# EAGLE library part H3LIS331DL (library CPSS_SENSOR)
ST Microelectronics High-g 3-axis accelerometer Features - Wide supply voltage, 2.16 V to 3.6 V - Low-voltage compatible IOs, 1.8 V - Ultra-low power consumption down to 10 μA in low-power mode - ±100g/±200g/±400g dynamically selectable full scales - I2C/SPI digital output interface - 16-bit data output - Sleep-to-wakeup function - 10000 g high-shock survivability - ECOPACK®, RoHS and “Green” compliant
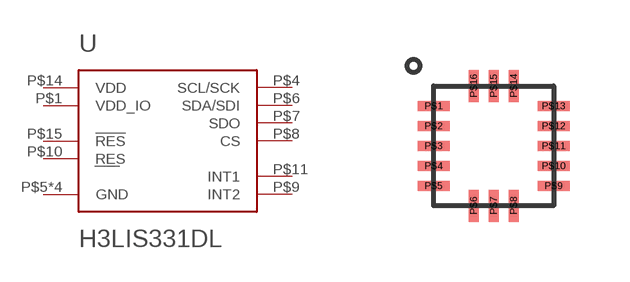
[diagram p5: symbol with the pads of TFLGA-16L; footprint TFLGA-16L]

Designator prefix U

## H3LIS331DL  [TFLGA-16L]
P$1  VDD_IO
P$4  SCL/SCK
P$5  GND
P$6  SDA/SDI
P$7  SDO
P$8  CS
P$9  INT2
P$10  RES
P$11  INT1
P$12  GND
P$13  GND
P$14  VDD
P$15  !RES
P$16  GND

## Footprint TFLGA-16L (pad centres in mm)
smd 0.8 x 0.25: P$1 -1.5,1; P$2 -1.5,0.5; P$3 -1.5,0; P$4 -1.5,-0.5; P$5 -1.5,-1; P$9 1.5,-1; P$10 1.5,-0.5; P$11 1.5,0; P$12 1.5,0.5; P$13 1.5,1
smd 0.25 x 0.8: P$6 -0.5,-1.5; P$7 0,-1.5; P$8 0.5,-1.5; P$14 0.5,1.5; P$15 0,1.5; P$16 -0.5,1.5